# EAGLE library part NC5M*-SW (library con-neutrik_xlr_2)
5 pin XLR Male with Switch plus Ground, Vertical Series A and B Metal faceplate makes no difference to size
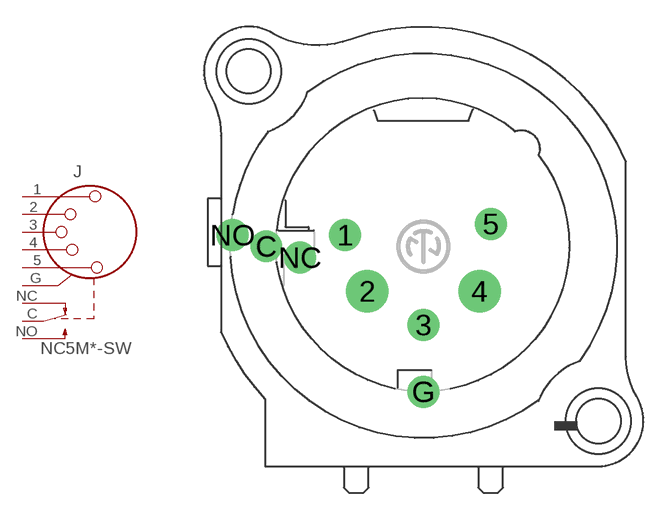
[diagram p6: symbol with the pads of NC5MV-SW; footprint NC5MV-SW]

Designator prefix J

## NC5MAV-SW, NC5MBV-SW  [NC5MV-SW]
1  1  pas
2  2  pas
3  3  pas
4  4  pas
5  5  pas
C  C  pas
G  G  pas
NC  NC  pas
NO  NO  pas

## Footprint NC5MV-SW (pad centres in mm)
5 pin XLR Male with Switch plus Ground Vertical, A or B Series Metal faceplate makes no difference to size
drill 1.2: 1 -4.445,0.635; 3 0,-4.445; 5 3.81,1.27; G 0,-8.225
drill 1.6: 2 -3.175,-2.54; 4 3.175,-2.54
drill 1.2 pad 1.7: C -8.89,0; NC -6.985,-0.635; NO -10.795,0.635